# Altium footprint library 2220.PcbLib: 1 footprints
Each footprint in its own frame and in the unit in brackets; x right, y up, seen from the top. Pads: shape width x height; smd on the part's side, far side on the other; paste and mask are expansions set on the pad; w line width, h text height; cw(c..) or ccw(c..) is an arc to the next point about the centre after c.
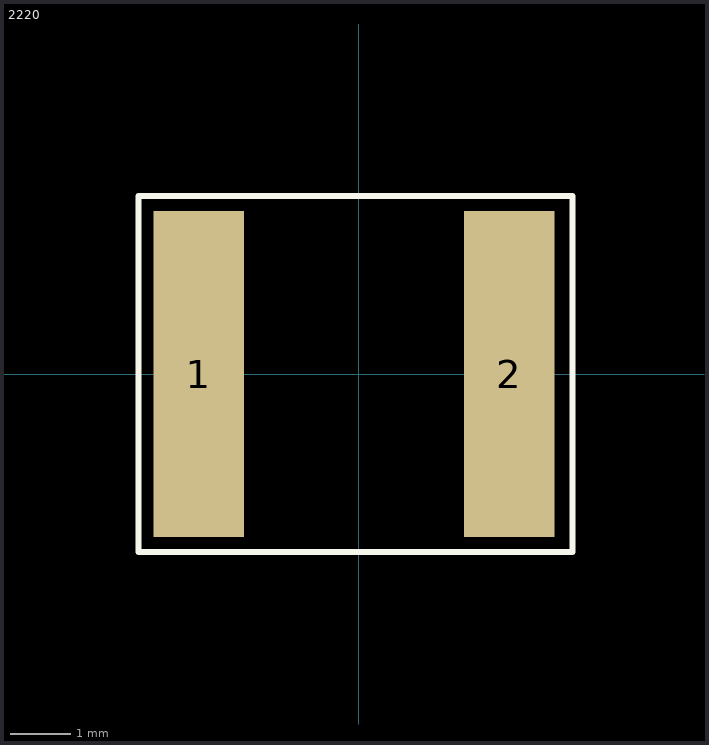
[diagram p0: the footprint, top view; thin cyan lines are the x and y axes]

## 2220 [mm]
pads (2):
  rect 1.5x5.4 smd paste-25.4 mask-25.4: 1(-2.65,0) 2(2.5,0)
Top Overlay:
  lines w0.1: -3.65,-2.95 3.55,-2.95 3.55,2.95 -3.65,2.95 -3.65,-2.95
Top Paste:
  region: 1.75,-2.7 3.25,-2.7 3.25,2.7 1.75,2.7
  region: -3.4,-2.7 -1.9,-2.7 -1.9,2.7 -3.4,2.7
Top Solder:
  region: 1.65,-2.8 3.35,-2.8 3.35,2.8 1.65,2.8
  region: -3.5,-2.8 -1.8,-2.8 -1.8,2.8 -3.5,2.8